# Altium footprint library MCore.PcbLib: 16 footprints
Each footprint in its own frame and in the unit in brackets; x right, y up, seen from the top. Pads: shape width x height; smd on the part's side, far side on the other; paste and mask are expansions set on the pad; w line width, h text height; cw(c..) or ccw(c..) is an arc to the next point about the centre after c.
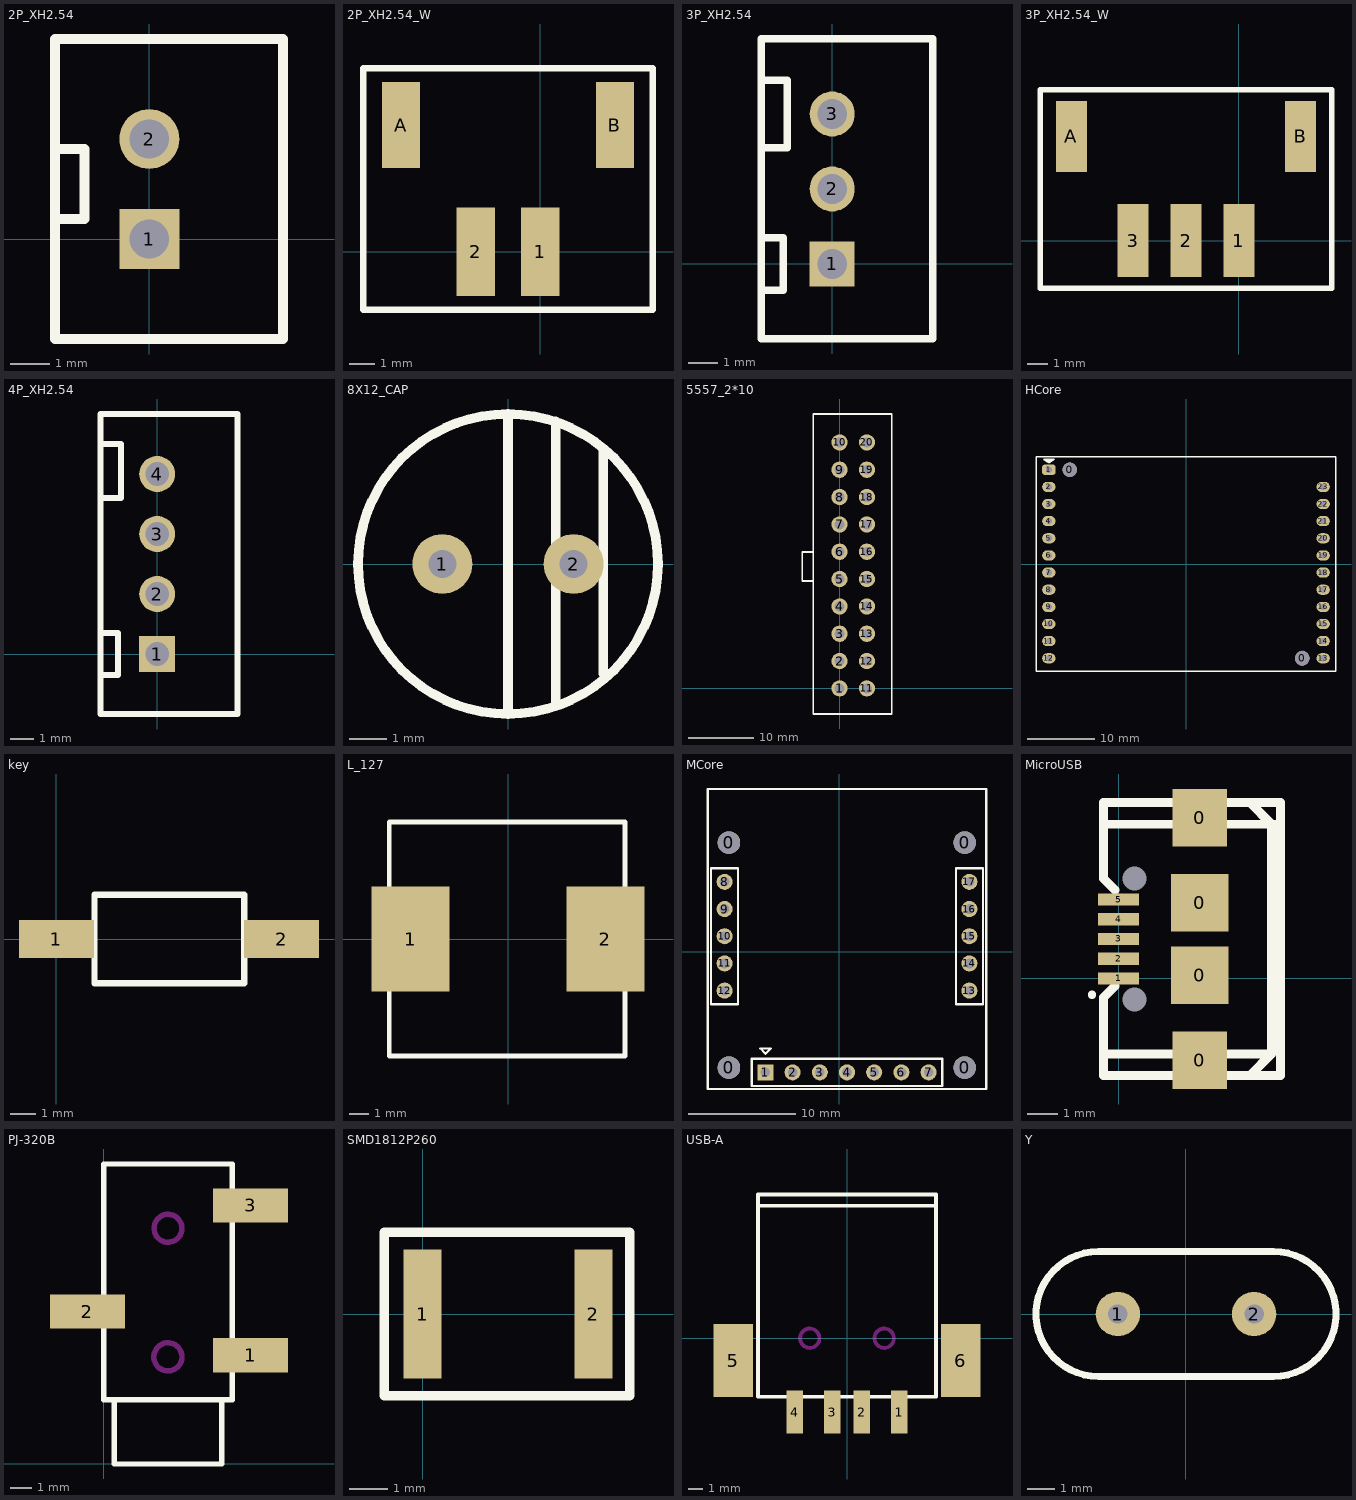
[diagram p0: the footprints below, top view; thin cyan lines are the x and y axes]

## 2P_XH2.54 [mil]
pads (2):
  rect 60x60 hole 39.37: 1(0,0)
  round 60 hole 39.37: 2(0,100)
Top Overlay:
  lines w10: -94.49,20 -65,20 -65,90 -94.49,90 ; -94.49,-100 -94.49,200 133.86,200 133.86,-100 -94.49,-100

## 2P_XH2.54_W [mm]
pads (4):
  rect 1.524x3.5 smd: 1(0,0) 2(-2.54,0)
  rect 1.5x3.4 smd: A(-5.49,5) B(2.95,5)
Top Overlay:
  lines w0.254: -6.985,-2.286 -6.985,7.239 4.445,7.239 4.445,-2.286 -6.985,-2.286

## 3P_XH2.54 [mil]
pads (3):
  rect 60x60 hole 39.37: 1(0,0)
  round 60 hole 39.37: 2(0,100) 3(0,200)
Top Overlay:
  lines w10: -94.49,-35 -65,-35 -65,35 -94.49,35 ; -94.49,155 -60,155 -60,245 -94.49,245 ; -94.49,-100 133.86,-100 133.86,300 -94.49,300 -94.49,-100

## 3P_XH2.54_W [mm]
pads (5):
  rect 1.5x3.5 smd: 1(0,0) 2(-2.54,0) 3(-5.08,0)
  rect 1.5x3.4 smd: A(-8.03,5) B(2.95,5)
Top Overlay:
  lines w0.254: -9.525,-2.286 4.445,-2.286 4.445,7.239 -9.525,7.239 -9.525,-2.286

## 4P_XH2.54 [mil]
pads (4):
  rect 60x60 hole 39.37: 1(0,0)
  round 60 hole 39.37: 2(0,100) 3(0,200) 4(0,300)
Top Overlay:
  lines w10: -94.49,-35 -65,-35 -65,35 -94.49,35 ; -94.49,260 -60,260 -60,350 -94.49,350 ; -94.49,-100 133.86,-100 133.86,400 -94.49,400 -94.49,-100

## 8X12_CAP [mm]
pads (2):
  round 1.6 hole 0.75: 1(-1.75,0) 2(1.75,0)
Top Overlay:
  circle w0.254: c0,0 r4
  lines w0.254: 0,-3.937 0,3.937 ; 1.27,-3.683 1.27,3.81 ; 2.54,-2.921 2.54,3.048

## 5557_2*10 [mm]
pads (20):
  round 2.5 hole 1.5: 1(0,0) 2(0,4.2) 3(0,8.4) 4(0,12.6) 5(0,16.8) 6(0,21) 7(0,25.2) 8(0,29.4) 9(0,33.6) 10(0,37.8) 11(4.2,0) 12(4.2,4.2) 13(4.2,8.4) 14(4.2,12.6) 15(4.2,16.8) 16(4.2,21) 17(4.2,25.2) 18(4.2,29.4) 19(4.2,33.6) 20(4.2,37.8)
Top Overlay:
  lines w0.254: -4.191,16.51 -5.715,16.51 -5.715,20.955 -4.064,20.955 ; -4.064,-3.937 -4.064,42.164 8.001,42.164 8.001,-3.937 -4.064,-3.937

## HCore [mm]
pads (25):
  round 2.1 hole 2.1: 0(-17.225,13.97) 0(17.225,-13.97)
  rrect50% 2x1.5 hole 0.9: 1(-20.32,13.97)
  oval 2x1.5 hole 0.9: 2(-20.32,11.43) 3(-20.32,8.89) 4(-20.32,6.35) 5(-20.32,3.81) 6(-20.32,1.27) 7(-20.32,-1.27) 8(-20.32,-3.81) 9(-20.32,-6.35) 10(-20.32,-8.89) 11(-20.32,-11.43) 12(-20.32,-13.97) 13(20.32,-13.97) 14(20.32,-11.43) 15(20.32,-8.89) 16(20.32,-6.35) 17(20.32,-3.81) 18(20.32,-1.27) 19(20.32,1.27) 20(20.32,3.81) 21(20.32,6.35) 22(20.32,8.89) 23(20.32,11.43)
Top Overlay:
  region: -21.082,15.494 -19.558,15.494 -20.32,14.986
  lines w0.2: -22.225,-15.875 -22.225,15.875 22.225,15.875 22.225,-15.875 -22.225,-15.875 ; -21.082,15.494 -20.32,14.986 -19.558,15.494 -21.082,15.494
Keep-Out Layer:
  circle w0.1: c17.225,-13.97 r1.05

## key [mil]
height 196.85
pads (2):
  rect 118.11x60 smd: 1(0,0) 2(355,0)
Top Overlay:
  lines w10: 60,-70 296.22,-70 296.22,70 60,70 60,-70

## L_127 [mm]
pads (2):
  rect 4x5.4 smd: 1(-5,0) 2(5,0)
Top Overlay:
  lines w0.254: -6.096,-6 -6.096,6 6,6 6,-6 -6.096,-6

## MCore [mm]
pads (21):
  round 2.1 hole 2.1 unplated: 0(-10.268,-10.807) 0(-10.268,10.193) 0(11.732,-10.807) 0(11.732,10.193)
  rect 1.5x1.5 hole 0.9: 1(-6.874,-11.252)
  round 1.5 hole 0.9: 2(-4.334,-11.252) 3(-1.794,-11.252) 4(0.746,-11.252) 5(3.286,-11.252) 6(5.826,-11.252) 7(8.366,-11.252) 8(-10.683,6.528) 9(-10.683,3.988) 10(-10.683,1.448) 11(-10.683,-1.092) 12(-10.683,-3.632) 13(12.177,-3.632) 14(12.177,-1.092) 15(12.177,1.448) 16(12.177,3.988) 17(12.177,6.528)
Top Overlay:
  lines w0.2: -12.253,-12.811 -12.253,15.189 ; -12.243,-12.811 13.732,-12.811 ; -12.243,15.189 13.736,15.189 ; 13.746,-12.807 13.746,15.189 ; -11.953,-4.902 -9.413,-4.902 -9.413,7.798 -11.953,7.798 -11.953,-4.902 ; -8.144,-12.522 9.636,-12.522 9.636,-9.982 -8.144,-9.982 -8.144,-12.522 ; -7.366,-9.017 -6.858,-9.525 -6.35,-9.017 -7.366,-9.017 ; 10.907,-4.902 13.447,-4.902 13.447,7.798 10.907,7.798 10.907,-4.902
Keep-Out Layer:
  lines w0.127: 13.732,-12.791 13.736,-12.787

## MicroUSB [mm] "Connector; USB1.1, Type B, SM; 4 Position; Right Angle"
height 11
pads (11):
  rect 1.8x1.9 smd: 0(2.675,-2.7) 0(2.675,5.3)
  rect 1.9x1.9 smd: 0(2.675,0.1) 0(2.675,2.5)
  rect 1.35x0.4 smd mask+0.001: 1(0,0) 2(0,0.65) 3(0,1.3) 4(0,1.95) 5(0,2.6)
  round 0 hole 0.8 unplated mask+0.001: MH1(0.525,3.3) MH2(0.525,-0.7)
Top Overlay:
  circle w0.25: c-0.881,-0.542 r0.011
  lines w0.3: -0.452,-2.495 5.04,-2.495 ; -0.452,5.094 5.334,5.08 5.04,5.094 ; -0.127,-0.254 -0.5,-0.627 -0.5,-3.209 4.326,-3.209 5.04,-2.495 ; -0.127,2.921 -0.5,3.294 -0.5,5.808 4.326,5.808 5.04,5.094 ; 3.818,5.808 5.334,5.808 5.334,-3.209 3.945,-3.209 ; 5.04,-2.495 5.04,5.094
3D body "AP2014.STEP": height 2.79, standoff -0.28, extent -0.11,-3.091 5.515,5.709

## PJ-320B [mm]
pads (3):
  rect 3.5x1.6 smd: 1(6.858,5.08) 2(-0.762,7.112) 3(6.858,12.065)
Top Overlay:
  lines w0.254: 0.5,2.992 0.5,0 5.5,0 5.5,2.961 ; 0,3 0,14 6,14 6,3 0,3
Keep-Out Layer:
  circle w0.254: c3,11 r0.65
  circle w0.254: c3,5 r0.656

## SMD1812P260 [mm]
pads (2):
  rect 1x3.41 smd: 1(0,0) 2(4.5,0)
Top Overlay:
  lines w0.254: -1.016,-2.159 5.461,-2.159 5.461,2.159 -1.016,2.159 -1.016,-2.159

## USB-A [mm]
pads (6):
  rect 1.12x2.88 smd: 1(3.5,-4.96) 2(1,-4.96) 3(-1,-4.96) 4(-3.5,-4.96)
  rect 2.65x4.9 smd: 5(-7.625,-1.5) 6(7.625,-1.5)
Top Overlay:
  lines w0.254: -5.969,8.89 5.969,8.89 ; -5.969,-3.937 5.969,-3.937 5.969,9.652 -5.969,9.652 -5.969,-3.937
Keep-Out Layer:
  circle w0.254: c-2.5,0 r0.65
  circle w0.254: c2.5,0 r0.65

## Y [mm]
pads (2):
  round 1.6 hole 0.7: 1(-2.45,0) 2(2.45,0)
Top Overlay:
  lines w0.254: -3.15,-2.248 cw(c-3.15,0) -3.15,2.248 3.15,2.248 cw(c3.15,0) 3.15,-2.248 -3.15,-2.248
3D body "hc-49s_n.stp": height 3.6, standoff -2.9, extent -5.388,-2.27 5.412,2.23